# Altium footprint library AMPHENOL_RJE561881410.PcbLib: 1 footprints
Each footprint in its own frame and in the unit in brackets; x right, y up, seen from the top. Pads: shape width x height; smd on the part's side, far side on the other; paste and mask are expansions set on the pad; w line width, h text height; cw(c..) or ccw(c..) is an arc to the next point about the centre after c.
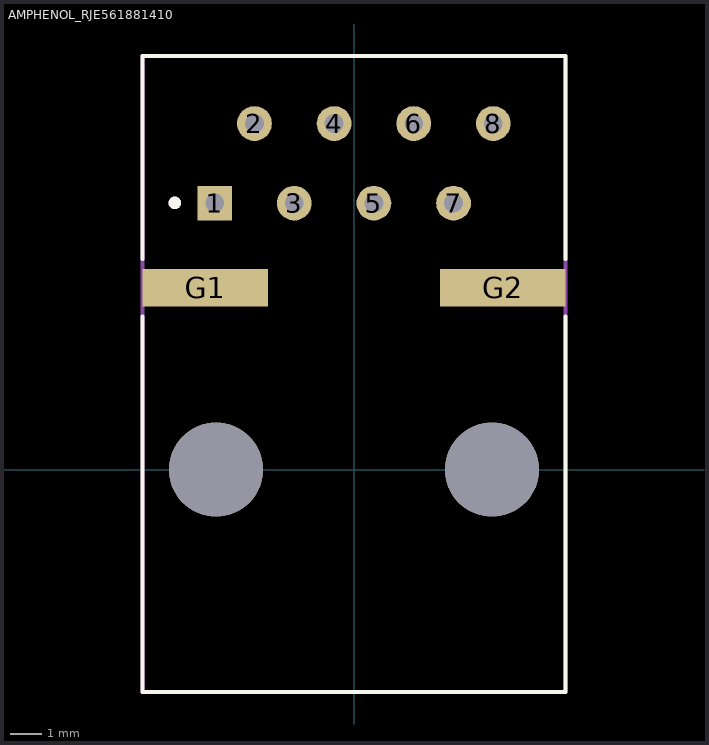
[diagram p0: the footprint, top view; thin cyan lines are the x and y axes]

## AMPHENOL_RJE561881410 [mm]
height 13.5
pads (12):
  rect 1.108x1.108 / inner round 1.108 / far side rect 1.108x1.108 hole 0.6: 1(-4.445,8.5)
  round 1.108 hole 0.6: 2(-3.175,11.04) 3(-1.905,8.5) 4(-0.635,11.04) 5(0.635,8.5) 6(1.905,11.04) 7(3.175,8.5) 8(4.445,11.04)
  rect 4x1.2 smd paste-3: G1(-4.75,5.8) G2(4.75,5.8)
  round 3 hole 3 unplated: ""(-4.4,0) ""(4.4,0)
Top Overlay:
  circle w0.2: c-5.715,8.509 r0.1
  lines w0.127: -6.75,4.88 -6.75,-7.1 6.75,-7.1 6.75,4.88 ; -6.75,6.72 -6.75,13.2 6.75,13.2 6.75,6.72
Mechanical 13:
  circle w0.2: c-5.715,8.509 r0.1
  lines w0.127: -6.75,-7.1 -6.75,13.2 6.75,13.2 6.75,-7.1 -6.75,-7.1
3D body "step_temp.STEP": height 14.61, standoff -2.79, extent -6.75,-7.038 6.75,13.262